# Altium integrated library SM06B-GHS-TB_LF__SN_.IntLib: 1 symbol
Pins are listed as number, name and electrical type; pins without a type are passive.

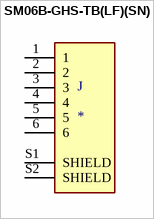
[diagram p0: symbol SM06B-GHS-TB(LF)(SN)]

## SM06B-GHS-TB(LF)(SN)
designator J
Поверхностный монтаж разъема, прямой угол 6, положение 0,049 _1,25 мм_; MP: SM06B-GHS-TB_LF__SN_; MF: JST Sales
footprint JST_SM06B-GHS-TB(LF)(SN)
pins: 1, 2, 3, 4, 5, 6, S1 SHIELD, S2 SHIELD